# EAGLE library part 10 (library Erni-MicroStack)
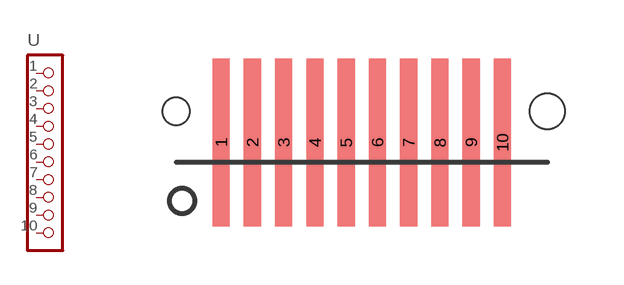
[diagram p2: symbol with the pads of 10X1; footprint 10X1]

Designator prefix -

## 10  [10X1]
1  1
2  2
3  3  pas
4  4  pas
5  5  pas
6  6  pas
7  7  pas
8  8  pas
9  9  pas
10  10  pas

## Footprint 10X1 (pad centres in mm)
smd 0.44 x 4.3: 1 -3.6,0.5; 2 -2.8,0.5; 3 -2,0.5; 4 -1.2,0.5; 5 -0.4,0.5; 6 0.4,0.5; 7 1.2,0.5; 8 2,0.5; 9 2.8,0.5; 10 3.6,0.5
hole 0.7 at -4.75,1.3
hole 0.9 at 4.75,1.3